# Altium footprint library VQFN-24-EP.PcbLib: 1 footprints
Each footprint in its own frame and in the unit in brackets; x right, y up, seen from the top. Pads: shape width x height; smd on the part's side, far side on the other; paste and mask are expansions set on the pad; w line width, h text height; cw(c..) or ccw(c..) is an arc to the next point about the centre after c.
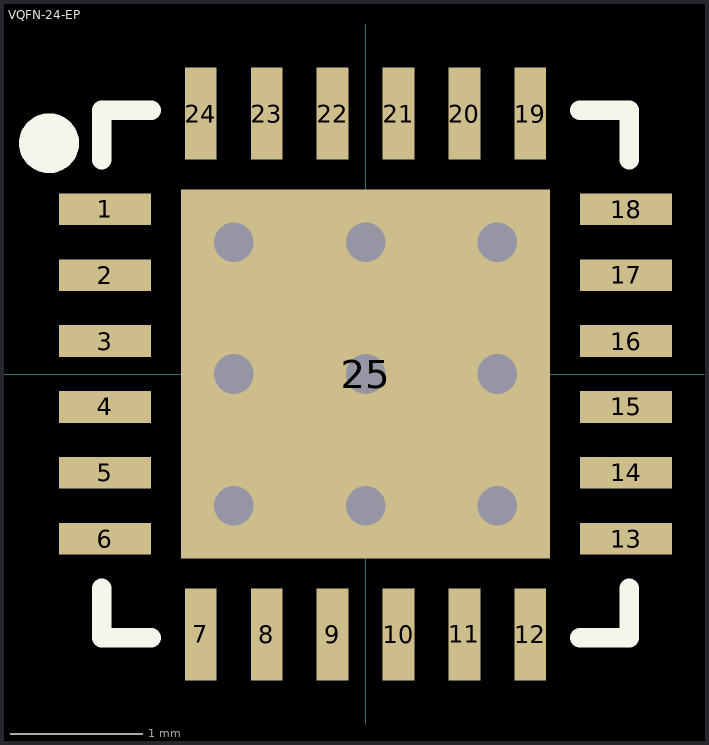
[diagram p0: the footprint, top view; thin cyan lines are the x and y axes]

## VQFN-24-EP [mm]
pads (25):
  rect 0.7x0.24 smd mask+0.065: 1(-1.975,1.25) 2(-1.975,0.75) 3(-1.975,0.25) 4(-1.975,-0.25) 5(-1.975,-0.75) 6(-1.975,-1.25) 13(1.975,-1.25) 14(1.975,-0.75) 15(1.975,-0.25) 16(1.975,0.25) 17(1.975,0.75) 18(1.975,1.25)
  rect 0.24x0.7 smd mask+0.065: 7(-1.25,-1.975) 8(-0.75,-1.975) 9(-0.25,-1.975) 10(0.25,-1.975) 11(0.75,-1.975) 12(1.25,-1.975) 19(1.25,1.975) 20(0.75,1.975) 21(0.25,1.975) 22(-0.25,1.975) 23(-0.75,1.975) 24(-1.25,1.975)
  rect 2.8x2.8 smd mask+0.065: 25(0,0)
via 1,-1 diameter 0.5 hole 0.3
via -1,-1 diameter 0.5 hole 0.3
via -1,1 diameter 0.5 hole 0.3
via 1,1 diameter 0.5 hole 0.3
via -1,0 diameter 0.5 hole 0.3
via 0,-1 diameter 0.5 hole 0.3
via 1,0 diameter 0.5 hole 0.3
via 0,0 diameter 0.5 hole 0.3
via 0,1 diameter 0.5 hole 0.3
Top Overlay:
  circle w0.254: c-2.4,1.75 r0.1
  lines w0.15: -2,-1.625 -2,-2 -1.625,-2 ; -2,1.625 -2,2 -1.625,2 ; 1.625,-2 2,-2 2,-1.625 ; 1.625,2 2,2 2,1.625
3D body: height 1, standoff 0, extent -2,-2 2,2